# EAGLE library part XS1-G4-144 (library xmos)
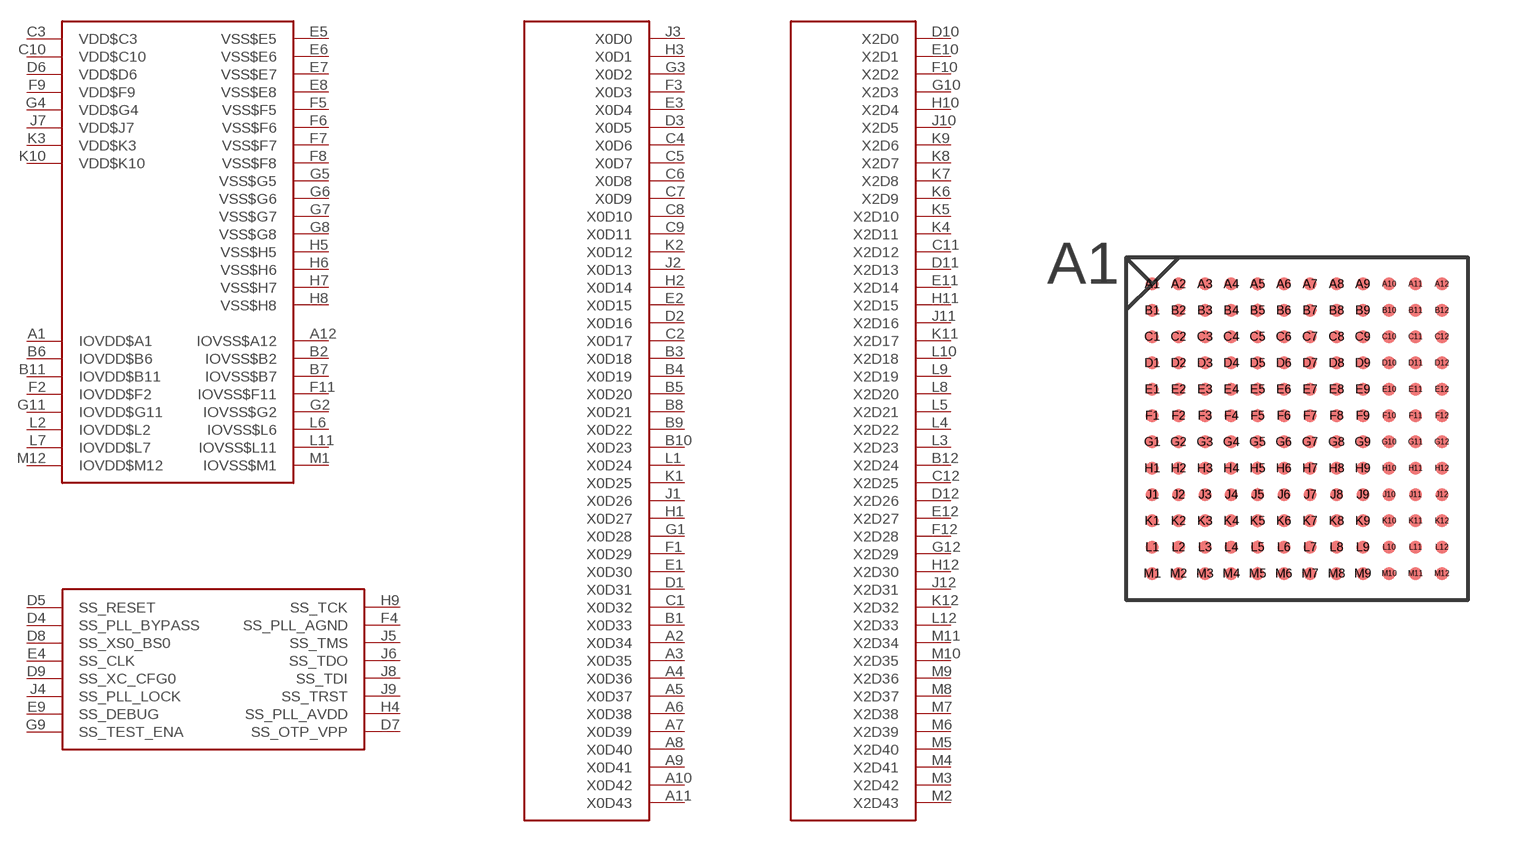
[diagram p0: symbol with the pads of TBGA144; footprint TBGA144]

Designator prefix -; gates G$1=XS1-G4-PWR G$2=XS1-G4-SYS G$3=XS1-G4-XC0 G$4=XS1-G4-XC2

## XS1-G4-144  [TBGA144]
A1  G$1:IOVDD$A1  pwr
A2  G$3:X0D34
A3  G$3:X0D35
A4  G$3:X0D36
A5  G$3:X0D37
A6  G$3:X0D38
A7  G$3:X0D39
A8  G$3:X0D40
A9  G$3:X0D41
A10  G$3:X0D42
A11  G$3:X0D43
A12  G$1:IOVSS$A12  pwr
B1  G$3:X0D33
B2  G$1:IOVSS$B2  pwr
B3  G$3:X0D18
B4  G$3:X0D19
B5  G$3:X0D20
B6  G$1:IOVDD$B6  pwr
B7  G$1:IOVSS$B7  pwr
B8  G$3:X0D21
B9  G$3:X0D22
B10  G$3:X0D23
B11  G$1:IOVDD$B11  pwr
B12  G$4:X2D24
C1  G$3:X0D32
C2  G$3:X0D17
C3  G$1:VDD$C3  pwr
C4  G$3:X0D6
C5  G$3:X0D7
C6  G$3:X0D8
C7  G$3:X0D9
C8  G$3:X0D10
C9  G$3:X0D11
C10  G$1:VDD$C10  pwr
C11  G$4:X2D12
C12  G$4:X2D25
D1  G$3:X0D31
D2  G$3:X0D16
D3  G$3:X0D5
D4  G$2:SS_PLL_BYPASS
D5  G$2:SS_RESET
D6  G$1:VDD$D6  pwr
D7  G$2:SS_OTP_VPP
D8  G$2:SS_XS0_BS0
D9  G$2:SS_XC_CFG0
D10  G$4:X2D0
D11  G$4:X2D13
D12  G$4:X2D26
E1  G$3:X0D30
E2  G$3:X0D15
E3  G$3:X0D4
E4  G$2:SS_CLK
E5  G$1:VSS$E5  pwr
E6  G$1:VSS$E6  pwr
E7  G$1:VSS$E7  pwr
E8  G$1:VSS$E8  pwr
E9  G$2:SS_DEBUG
E10  G$4:X2D1
E11  G$4:X2D14
E12  G$4:X2D27
F1  G$3:X0D29
F2  G$1:IOVDD$F2  pwr
F3  G$3:X0D3
F4  G$2:SS_PLL_AGND
F5  G$1:VSS$F5  pwr
F6  G$1:VSS$F6  pwr
F7  G$1:VSS$F7  pwr
F8  G$1:VSS$F8  pwr
F9  G$1:VDD$F9  pwr
F10  G$4:X2D2
F11  G$1:IOVSS$F11  pwr
F12  G$4:X2D28
G1  G$3:X0D28
G2  G$1:IOVSS$G2  pwr
G3  G$3:X0D2
G4  G$1:VDD$G4  pwr
G5  G$1:VSS$G5  pwr
G6  G$1:VSS$G6  pwr
G7  G$1:VSS$G7  pwr
G8  G$1:VSS$G8  pwr
G9  G$2:SS_TEST_ENA
G10  G$4:X2D3
G11  G$1:IOVDD$G11  pwr
G12  G$4:X2D29
H1  G$3:X0D27
H2  G$3:X0D14
H3  G$3:X0D1
H4  G$2:SS_PLL_AVDD
H5  G$1:VSS$H5  pwr
H6  G$1:VSS$H6  pwr
H7  G$1:VSS$H7  pwr
H8  G$1:VSS$H8  pwr
H9  G$2:SS_TCK
H10  G$4:X2D4
H11  G$4:X2D15
H12  G$4:X2D30
J1  G$3:X0D26
J2  G$3:X0D13
J3  G$3:X0D0
J4  G$2:SS_PLL_LOCK
J5  G$2:SS_TMS
J6  G$2:SS_TDO
J7  G$1:VDD$J7  pwr
J8  G$2:SS_TDI
J9  G$2:SS_TRST
J10  G$4:X2D5
J11  G$4:X2D16
J12  G$4:X2D31
K1  G$3:X0D25
K2  G$3:X0D12
K3  G$1:VDD$K3  pwr
K4  G$4:X2D11
K5  G$4:X2D10
K6  G$4:X2D9
K7  G$4:X2D8
K8  G$4:X2D7
K9  G$4:X2D6
K10  G$1:VDD$K10  pwr
K11  G$4:X2D17
K12  G$4:X2D32
L1  G$3:X0D24
L2  G$1:IOVDD$L2  pwr
L3  G$4:X2D23
L4  G$4:X2D22
L5  G$4:X2D21
L6  G$1:IOVSS$L6  pwr
L7  G$1:IOVDD$L7  pwr
L8  G$4:X2D20
L9  G$4:X2D19
L10  G$4:X2D18
L11  G$1:IOVSS$L11  pwr
L12  G$4:X2D33
M1  G$1:IOVSS$M1  pwr
M2  G$4:X2D43
M3  G$4:X2D42
M4  G$4:X2D41
M5  G$4:X2D40
M6  G$4:X2D39
M7  G$4:X2D38
M8  G$4:X2D37
M9  G$4:X2D36
M10  G$4:X2D35
M11  G$4:X2D34
M12  G$1:IOVDD$M12  pwr

## Footprint TBGA144 (pad centres in mm)
smd 0.4 x 0.4: A1 -6.4,4; A2 -5.6,4; A3 -4.8,4; A4 -4,4; A5 -3.2,4; A6 -2.4,4; A7 -1.6,4; A8 -0.8,4; A9 0,4; A10 0.8,4; A11 1.6,4; A12 2.4,4; B1 -6.4,3.2; B2 -5.6,3.2; B3 -4.8,3.2; B4 -4,3.2; B5 -3.2,3.2; B6 -2.4,3.2; B7 -1.6,3.2; B8 -0.8,3.2; B9 0,3.2; B10 0.8,3.2; B11 1.6,3.2; B12 2.4,3.2; C1 -6.4,2.4; C2 -5.6,2.4; C3 -4.8,2.4; C4 -4,2.4; C5 -3.2,2.4; C6 -2.4,2.4; C7 -1.6,2.4; C8 -0.8,2.4; C9 0,2.4; C10 0.8,2.4; C11 1.6,2.4; C12 2.4,2.4; D1 -6.4,1.6; D2 -5.6,1.6; D3 -4.8,1.6; D4 -4,1.6; D5 -3.2,1.6; D6 -2.4,1.6; D7 -1.6,1.6; D8 -0.8,1.6; D9 0,1.6; D10 0.8,1.6; D11 1.6,1.6; D12 2.4,1.6; E1 -6.4,0.8; E2 -5.6,0.8; E3 -4.8,0.8; E4 -4,0.8; E5 -3.2,0.8; E6 -2.4,0.8; E7 -1.6,0.8; E8 -0.8,0.8; E9 0,0.8; E10 0.8,0.8; E11 1.6,0.8; E12 2.4,0.8; F1 -6.4,0; F2 -5.6,0; F3 -4.8,0; F4 -4,0; F5 -3.2,0; F6 -2.4,0; F7 -1.6,0; F8 -0.8,0; F9 0,0; F10 0.8,0; F11 1.6,0; F12 2.4,0; G1 -6.4,-0.8; G2 -5.6,-0.8; G3 -4.8,-0.8; G4 -4,-0.8; G5 -3.2,-0.8; G6 -2.4,-0.8; G7 -1.6,-0.8; G8 -0.8,-0.8; G9 0,-0.8; G10 0.8,-0.8; G11 1.6,-0.8; G12 2.4,-0.8; H1 -6.4,-1.6; H2 -5.6,-1.6; H3 -4.8,-1.6; H4 -4,-1.6; H5 -3.2,-1.6; H6 -2.4,-1.6; H7 -1.6,-1.6; H8 -0.8,-1.6; H9 0,-1.6; H10 0.8,-1.6; H11 1.6,-1.6; H12 2.4,-1.6; J1 -6.4,-2.4; J2 -5.6,-2.4; J3 -4.8,-2.4; J4 -4,-2.4; J5 -3.2,-2.4; J6 -2.4,-2.4; J7 -1.6,-2.4; J8 -0.8,-2.4; J9 0,-2.4; J10 0.8,-2.4; J11 1.6,-2.4; J12 2.4,-2.4; K1 -6.4,-3.2; K2 -5.6,-3.2; K3 -4.8,-3.2; K4 -4,-3.2; K5 -3.2,-3.2; K6 -2.4,-3.2; K7 -1.6,-3.2; K8 -0.8,-3.2; K9 0,-3.2; K10 0.8,-3.2; K11 1.6,-3.2; K12 2.4,-3.2; L1 -6.4,-4; L2 -5.6,-4; L3 -4.8,-4; L4 -4,-4; L5 -3.2,-4; L6 -2.4,-4; L7 -1.6,-4; L8 -0.8,-4; L9 0,-4; L10 0.8,-4; L11 1.6,-4; L12 2.4,-4; M1 -6.4,-4.8; M2 -5.6,-4.8; M3 -4.8,-4.8; M4 -4,-4.8; M5 -3.2,-4.8; M6 -2.4,-4.8; M7 -1.6,-4.8; M8 -0.8,-4.8; M9 0,-4.8; M10 0.8,-4.8; M11 1.6,-4.8; M12 2.4,-4.8